# Altium footprint library SOT95P280X145-6N.PCBLIB: 1 footprints
Each footprint in its own frame and in the unit in brackets; x right, y up, seen from the top. Pads: shape width x height; smd on the part's side, far side on the other; paste and mask are expansions set on the pad; w line width, h text height; cw(c..) or ccw(c..) is an arc to the next point about the centre after c.
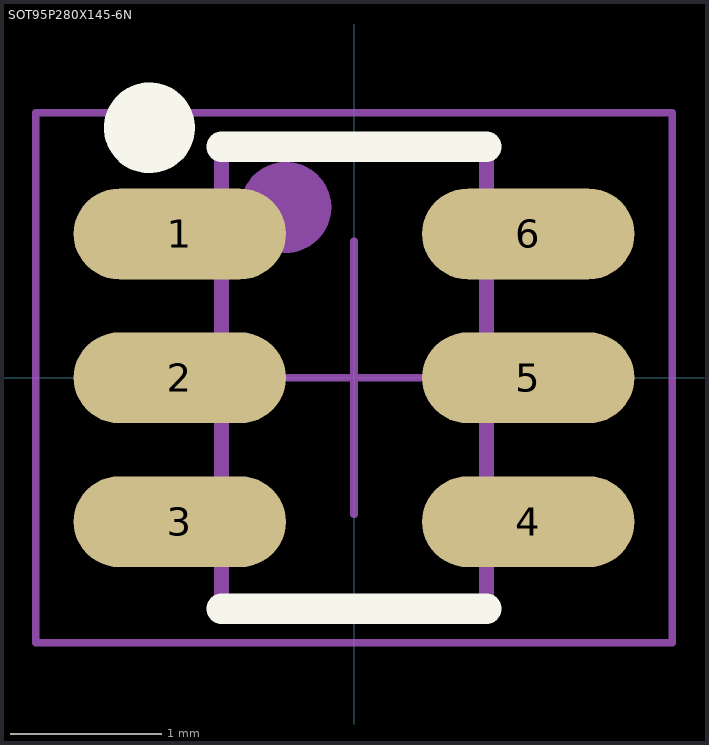
[diagram p0: the footprint, top view; thin cyan lines are the x and y axes]

## SOT95P280X145-6N [mm]
height 1.45
pads (6):
  oval 1.4x0.6 smd: 1(-1.15,0.95) 2(-1.15,0) 3(-1.15,-0.95) 4(1.15,-0.95) 5(1.15,0) 6(1.15,0.95)
Top Overlay:
  circle w0.3: c-1.35,1.65 r0.15
  lines w0.2: -0.875,-1.525 0.874,-1.525 ; -0.874,1.525 0.875,1.525
Top Assembly:
  circle w0.3: c-0.45,1.125 r0.15
  lines w0.1: -0.875,-1.525 -0.875,1.525 0.875,1.525 0.875,-1.525 -0.875,-1.525
Top Courtyard:
  lines w0.05: -2.1,-1.75 -2.1,1.75 2.1,1.75 2.1,-1.75 -2.1,-1.75
Top Designator:
  text ".Designator" at -0.45,1.9 h0.7
Top Component Center:
  lines w0.05: -0.9,0 0,0 ; 0,-0.9 0,0 ; 0,0.9 0,0 ; 0.9,0 0,0
3D body "SOT95P270X145-6L50.STEP": height 1.45, standoff 0, extent -1.35,-1.45 1.35,1.45